# Altium schematic symbol library Memory EEPROM I2C.SchLib: 30 symbols
Pins are listed as number, name and electrical type; pins without a type are passive.

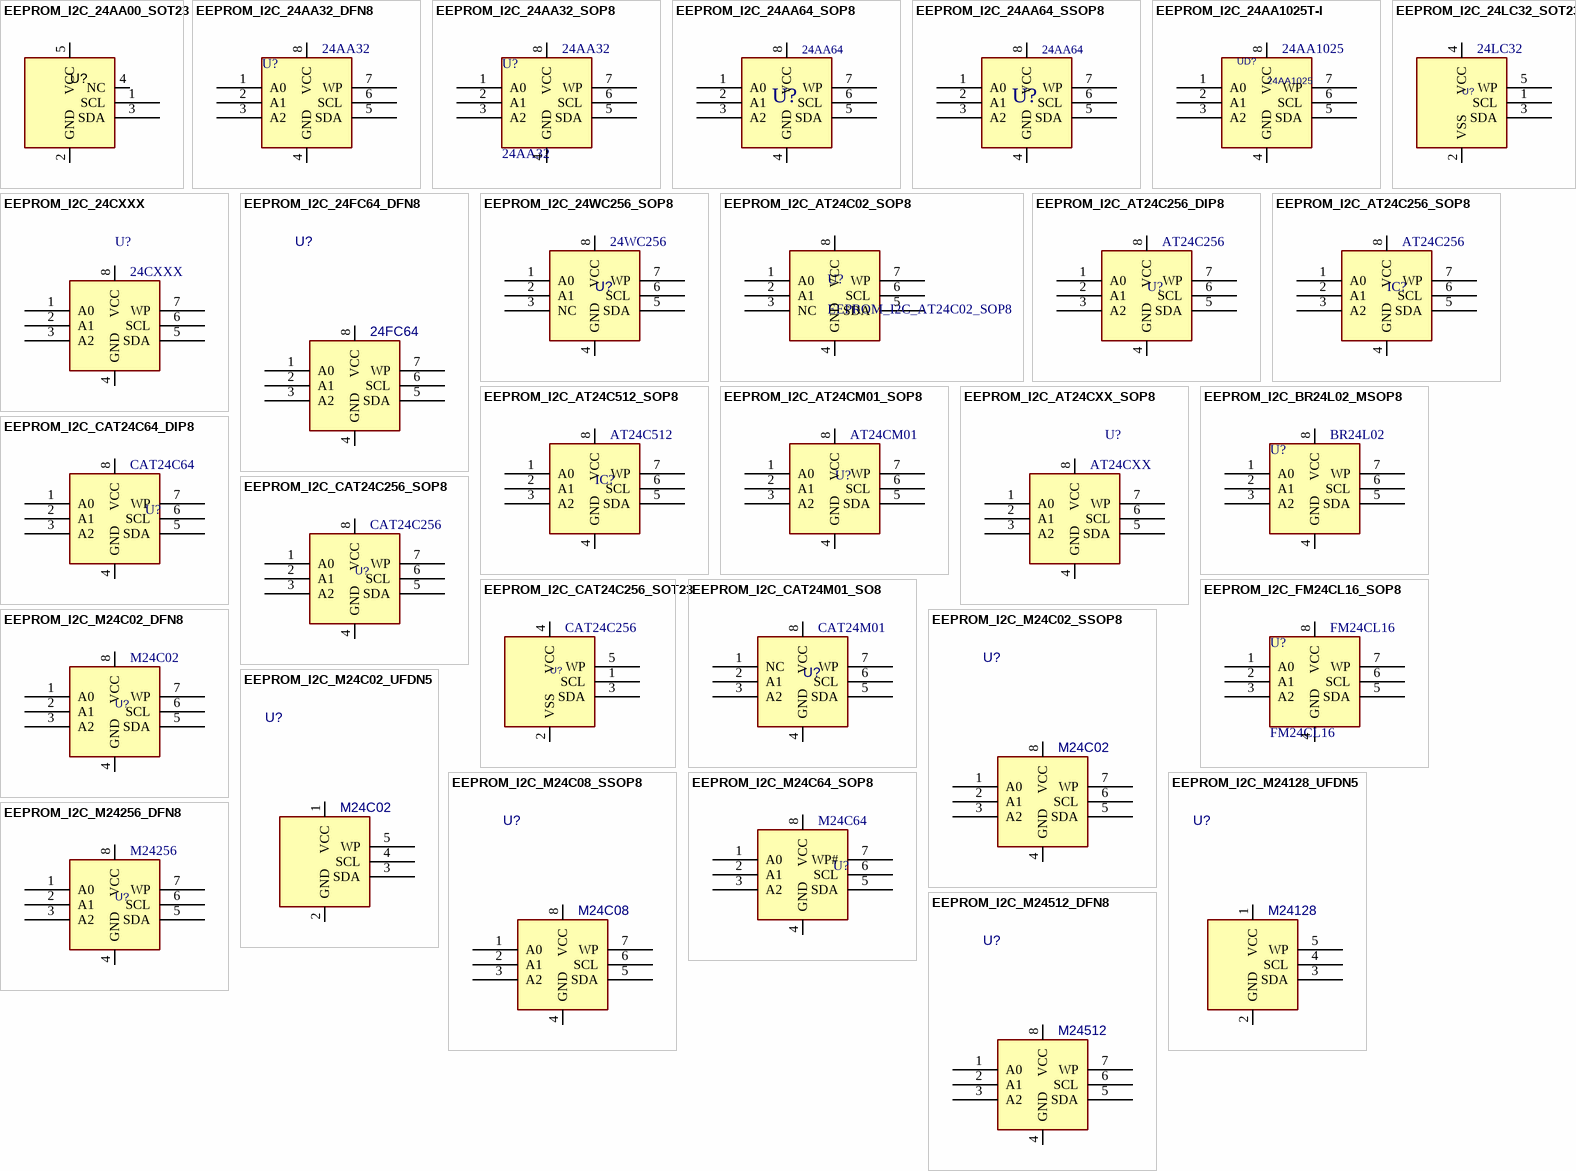
[diagram p0: symbols EEPROM_I2C_24AA00_SOT23 to EEPROM_I2C_M24512_DFN8]

## EEPROM_I2C_24AA00_SOT23
designator U?, comment 24AA00  (value not drawn)
EEPROM, I2C, 128bit, 400KHZ, SOT23-5; MANF: Microchip Technology; MANF_P#: 24AA00T-I/OT; PARAM2: 1.7~5.5V; PARAM: 128 (16 x 8); Value: 24AA00
footprint SOT23_5 (SOT-23-5, SOT25, SOT-25, DBV(R-PDSO-G5), TSOT23-5, SC-74A, SOT23-5, S5-T (LINEAR), MO-178AA, MO-193AB(JEDEC), MF05A (NS), TSOP-6(ON), UJ-5 (AD))
pins: 1 SCL, 2 GND, 3 SDA, 4 NC, 5 VCC

## EEPROM_I2C_24AA32_DFN8
designator U?, comment 24AA32
EEPROM, I2C, 32Kbit, 400kHz, 1.7V, DFN-8; MANF: Microchip; MANF_P#: 24AA32AAH1; VALUE: 24AA32
footprint SON50_8T_2X3 (TDFN, UFDFPN8, Pitch: 0.5mm 2x3x0.8mm with Thermal pad)
pins: 1 A0, 2 A1, 3 A2, 4 GND, 5 SDA, 6 SCL, 7 WP, 8 VCC

## EEPROM_I2C_24AA32_SOP8
designator U?, comment 24AA32
EEPROM, I2C, 32Kbit, 400kHz, 1.7V, SOP-8; MANF: Microchip; MANF_P#: 24AA32AFT-I/SN; VALUE: 24AA32
footprint SO_8
pins: 1 A0, 2 A1, 3 A2, 4 GND, 5 SDA, 6 SCL, 7 WP, 8 VCC

## EEPROM_I2C_24AA64_SOP8
designator U?, comment 24AA64
EEPROM, I2C, 64Kb (8K X8); MANF: Microchip; MANF_P#: 24AA64T-I/SN; PARAM2: 1.8~5.5V, 200Years; PARAM: 64Kb (8K X8), 400KHz, -40~85oC; PRICE: 0.47$; VALUE: 24AA64
footprint SO_8 (SOP-8, 5x3.9mm body 1.27mm pitch, SOT96-1, M08A, S8, SOIC8, VO8, MS-012AA(JEDEC), R-8, 8S2, VOG8)
pins: 1 A0, 2 A1, 3 A2, 4 GND, 5 SDA, 6 SCL, 7 WP, 8 VCC

## EEPROM_I2C_24AA64_SSOP8
designator U?, comment 24AA64
EEPROM, I2C, 64Kb (8K X8); MANF: Microchip; MANF_P#: 24AA64T-I/ST; PARAM2: 1.8~5.5V, 200Years; PARAM: 64Kb (8K X8), 400KHz, -40~85oC; PRICE: 0.5$; VALUE: 24AA64
footprint SOG65_8 (PW TSSOP (TI), MO-153 (JEDEC), 8Lead, pitch: 0.65mm, 3x4.4x1.2mm)
pins: 1 A0, 2 A1, 3 A2, 4 GND, 5 SDA, 6 SCL, 7 WP, 8 VCC

## EEPROM_I2C_24AA1025T-I
designator UD?, comment 24AA1025
EEPROM, I2C,; MANF: Microchip; MANF_P#: 24AA1025T-I/SM; VALUE: 24AA1025
footprint SO_8_W
pins: 1 A0, 2 A1, 3 A2, 4 GND, 5 SDA, 6 SCL, 7 WP, 8 VCC

## EEPROM_I2C_24CXXX
designator U?, comment 24CXXX
EEPROM, I2C; VALUE: 24CXXX
pins: 1 A0, 2 A1, 3 A2, 4 GND, 5 SDA, 6 SCL, 7 WP, 8 VCC

## EEPROM_I2C_24FC64_DFN8
designator U?, comment 24FC64
EEPROM, I2C, 8Kb, 400KHZ, DFN8; MANF_P#: 24FC64T-I/MNY; PARAM: 2.5V-5V; MANF: MICROCHIP; DESC: DESCRIPTION; ASSEMBLY: ASSEMBLY; PARAM2: 2.5V-5V; PRICE: 0.19; VALUE: 24FC64
footprint SON50_8T_2X3 (TDFN, UFDFPN8, Pitch: 0.5mm 2x3x0.8mm with Thermal pad)
pins: 1 A0, 2 A1, 3 A2, 4 GND, 5 SDA, 6 SCL, 7 WP, 8 VCC

## EEPROM_I2C_24LC32_SOT23
designator U?, comment 24LC32
EEPROM, I2C, 256Kb, SOT23-5; MANF: Microchip; MANF_P#: 24LC32AT-I/OT; PARAM2: 2.5~5.5Vcc, 400KHz; PARAM: 256Kb, 32KB, 200Years, 900ns, -40~85oC; PRICE: 0.4$; VALUE: 24LC32
footprint SOT23_5 (SOT-23-5, SOT25, SOT-25, DBV(R-PDSO-G5), TSOT23-5, SC-74A, SOT23-5, S5-T (LINEAR), MO-178AA, MO-193AB(JEDEC), MF05A (NS), TSOP-6(ON), UJ-5 (AD))
pins: 1 SCL, 2 VSS, 3 SDA, 4 VCC, 5 WP

## EEPROM_I2C_24WC256_SOP8
designator U?, comment 24WC256
EEPROM, I2C, 256Kb, CMOS; MANF: CATALYST; DESC: DESCRIPTION; MANF_P#: 24WC256; ASSEMBLY: ASSEMBLY; PARAM: PARAM; PRICE: PRICE; VALUE: 24WC256
footprint SO_8
pins: 1 A0, 2 A1, 3 NC, 4 GND, 5 SDA, 6 SCL, 7 WP, 8 VCC

## EEPROM_I2C_AT24C02_SOP8
designator U?
EEPROM, I2C; VALUE: AT24C02
footprint SO_8
pins: 1 A0, 2 A1, 3 NC, 4 GND, 5 SDA, 6 SCL, 7 WP, 8 VCC

## EEPROM_I2C_AT24C256_DIP8
designator U?, comment AT24C256
EEPROM, I2C; VALUE: AT24C256
footprint DIP_8 (DIP, pitch 2.54mm, 300mil Width)
pins: 1 A0, 2 A1, 3 A2, 4 GND, 5 SDA, 6 SCL, 7 WP, 8 VCC

## EEPROM_I2C_AT24C256_SOP8
designator IC?, comment AT24C256
EEPROM, I2C; Value: AT24C256
footprint SO_8
pins: 1 A0, 2 A1, 3 A2, 4 GND, 5 SDA, 6 SCL, 7 WP, 8 VCC

## EEPROM_I2C_AT24C512_SOP8
designator IC?, comment AT24C512
EEPROM, I2C; Value: AT24C512
footprint SO_8
pins: 1 A0, 2 A1, 3 A2, 4 GND, 5 SDA, 6 SCL, 7 WP, 8 VCC

## EEPROM_I2C_AT24CM01_SOP8
designator U?, comment AT24CM01
EEPROM, I2C, 1-Mbit (131,072 x 8); MANF_P#: AT24CM01-SSHM; Value: AT24CM01
footprint SO_8
pins: 1 A0, 2 A1, 3 A2, 4 GND, 5 SDA, 6 SCL, 7 WP, 8 VCC

## EEPROM_I2C_AT24CXX_SOP8
designator U?, comment AT24CXX
EEPROM, I2C,; Value: AT24CXX
footprint SO_8
pins: 1 A0, 2 A1, 3 A2, 4 GND, 5 SDA, 6 SCL, 7 WP, 8 VCC

## EEPROM_I2C_BR24L02_MSOP8
designator U?, comment BR24L02
EEPROM, I2C, 2KBIT, 400KHZ 8MSOP; PARAM2: 1.8~5.5V, I²C, 2-Wire Serial; MANF: Rohm Semiconductor; MANF_P#: BR24L02FVM-WTR; PARAM: 2K (256 x 8), 400kHz; PRICE: 1=0.78, 25=0.602, 100=0.531, 250=0.4602, 500=0.3894, 1000=0.30975 (USD); VALUE: BR24L02
footprint SOG65_8_3 (pitch: 0.65mm, 3.0mmX3.0mm, SSOP DCT SM8 (TI), TSSOP8, MICRO8, DGK, MSOP8, RM-8, MS8, MSOP-8, usop8/8uSOP)
pins: 1 A0, 2 A1, 3 A2, 4 GND, 5 SDA, 6 SCL, 7 WP, 8 VCC

## EEPROM_I2C_CAT24C64_DIP8
designator U?, comment CAT24C64
EEPROM, I2C, 64Kbit (8K X8); MANF: ON; MANF_P#: CAT24C64LI-G; PARAM2: 2.5~5V, 100Years; PARAM: 64Kbit (8K X8), 400KHz, -40~85oC; PRICE: 0.4$; VALUE: CAT24C64
footprint DIP_8 (DIP, pitch 2.54mm, 300mil Width)
pins: 1 A0, 2 A1, 3 A2, 4 GND, 5 SDA, 6 SCL, 7 WP, 8 VCC

## EEPROM_I2C_CAT24C256_SOP8
designator U?, comment CAT24C256
EEPROM, I2C, 256Kb,  SOP-8; MANF: ON; MANF_P#: CAT24C256W; VALUE: CAT24C256
footprint SO_8
pins: 1 A0, 2 A1, 3 A2, 4 GND, 5 SDA, 6 SCL, 7 WP, 8 VCC

## EEPROM_I2C_CAT24C256_SOT23
designator U?, comment CAT24C256
EEPROM, I2C, 256Kb, SOT23-5; MANF: On Semiconductor; MANF_P#: CAT24C256WI-G; PARAM: 256Kb, 32KByte; VALUE: CAT24C256
footprint SOT23_5 (SOT-23-5, SOT25, SOT-25, DBV(R-PDSO-G5), TSOT23-5, SC-74A, SOT23-5, S5-T (LINEAR), MO-178AA, MO-193AB(JEDEC), MF05A (NS), TSOP-6(ON), UJ-5 (AD))
pins: 1 SCL, 2 VSS, 3 SDA, 4 VCC, 5 WP

## EEPROM_I2C_CAT24M01_SO8
designator U?, comment CAT24M01
EEPROM, I2C, 1M-Bit, CMOS; MANF_P#: CAT24M01WI-GT3; MANF: ON; DESC: DESCRIPTION; ASSEMBLY: ASSEMBLY; PARAM: PARAM; PRICE: PRICE; VALUE: CAT24M01
footprint SO_8
pins: 1 NC, 2 A1, 3 A2, 4 GND, 5 SDA, 6 SCL, 7 WP, 8 VCC

## EEPROM_I2C_FM24CL16_SOP8
designator U?, comment FM24CL16
EEPROM, I2C, 16Kbit, SOP-8; MANF: -; MANF_P#: FM24CL16; VALUE: FM24CL16
footprint SO_8
pins: 1 A0, 2 A1, 3 A2, 4 GND, 5 SDA, 6 SCL, 7 WP, 8 VCC

## EEPROM_I2C_M24C02_DFN8
designator U?, comment M24C02
EEPROM, I2C, 2Kb, 1MHz, DFN-8; MANF: ST; MANF_P#: M24C02-DRMF3TG/K; PARAM2: 1.8~5.5v,; PARAM: 256 x8, 1MHz, 100Years, -40~125oC; PRICE: 0.3$; VALUE: M24C02
footprint SON50_8T_2X3 (TDFN, UFDFPN8, Pitch: 0.5mm 2x3x0.8mm with Thermal pad)
pins: 1 A0, 2 A1, 3 A2, 4 GND, 5 SDA, 6 SCL, 7 WP, 8 VCC

## EEPROM_I2C_M24C02_SSOP8
designator U?, comment M24C02
EEPROM, I2C, 2KBIT, 400KHZ, 8TSSOP; MANF_P#: M24C02-WDW6TP; PARAM: 256X8; MANF: STMicroelectronics; DESC: DESCRIPTION; PARAM2: 2.5V-5V; ASSEMBLY: ASSEMBLY; PRICE: 0.19; VALUE: M24C02
footprint SOG65_8 (PW TSSOP (TI), MO-153 (JEDEC), 8Lead, pitch: 0.65mm, 3x4.4x1.2mm)
pins: 1 A0, 2 A1, 3 A2, 4 GND, 5 SDA, 6 SCL, 7 WP, 8 VCC

## EEPROM_I2C_M24C02_UFDN5
designator U?, comment M24C02
EEPROM, I2C, 2KBIT, 400KHZ, UFDFPN-5; MANF_P#: M24C02-FMH6TG; PARAM: 256X8, -40~85oC; MANF: STMicroelectronics; DESC: DESCRIPTION; PARAM2: 1.7V-5.5V; ASSEMBLY: ASSEMBLY; PRICE: 0.17$; VALUE: M24C02
footprint SON40_5_170X140 (UFDFPN5, pitch:0.4mm 1.7x1.4x0.5mm)
pins: 1 VCC, 2 GND, 3 SDA, 4 SCL, 5 WP

## EEPROM_I2C_M24C08_SSOP8
designator U?, comment M24C08
EEPROM, I2C, 8KBIT, 400KHZ, 8TSSOP; MANF_P#: M24C08-WDW6TP; PARAM: 2.5V-5V; MANF: STMicroelectronics; DESC: DESCRIPTION; ASSEMBLY: ASSEMBLY; PARAM2: 2.5V-5V; PRICE: 0.19; VALUE: M24C08
footprint SOG65_8 (PW TSSOP (TI), MO-153 (JEDEC), 8Lead, pitch: 0.65mm, 3x4.4x1.2mm)
pins: 1 A0, 2 A1, 3 A2, 4 GND, 5 SDA, 6 SCL, 7 WP, 8 VCC

## EEPROM_I2C_M24C64_SOP8
designator U?, comment M24C64
EEPROM, I2C, 64Kbit (8K X8); MANF: ST-Microelectronics; MANF_P#: M24C64-DRMN8, M24C64-WMN6, M24C64-FMN6; PARAM2: 1.8~5.5V, 200Years; PARAM: 64Kbit (8K X8), 1MHz, -40~85oC; PRICE: 0.4$; VALUE: M24C64
footprint SO_8 (SOP-8, 5x3.9mm body 1.27mm pitch, SOT96-1, M08A, S8, SOIC8, VO8, MS-012AA(JEDEC), R-8, 8S2, VOG8)
pins: 1 A0, 2 A1, 3 A2, 4 GND, 5 SDA, 6 SCL, 7 WP#, 8 VCC

## EEPROM_I2C_M24128_UFDN5
designator U?, comment M24128
EEPROM, I2C, 128Kb, 1MHZ, UFDFPN-5; MANF_P#: M24128-BFMH6TG; PARAM: 256X8, 1MHz, 200Years, -40~85oC; MANF: STMicroelectronics; DESC: DESCRIPTION; PARAM2: 1.7V-5.5V; ASSEMBLY: ASSEMBLY; PRICE: 0.45$; VALUE: M24128
footprint SON40_5_170X140 (UFDFPN5, pitch:0.4mm 1.7x1.4x0.5mm)
pins: 1 VCC, 2 GND, 3 SDA, 4 SCL, 5 WP

## EEPROM_I2C_M24256_DFN8
designator U?, comment M24256
EEPROM, I2C, 256Kb,  DFN-8; MANF: ST; MANF_P#: M24256-DFMC6TG; PARAM2: 1.7~5.5v; PARAM: 32k x8, 1MHz, 200Years, -40~85oC; PRICE: 0.47$; VALUE: M24256
footprint SON50_8T_2X3 (TDFN, UFDFPN8, Pitch: 0.5mm 2x3x0.8mm with Thermal pad)
pins: 1 A0, 2 A1, 3 A2, 4 GND, 5 SDA, 6 SCL, 7 WP, 8 VCC

## EEPROM_I2C_M24512_DFN8
designator U?, comment M24512
EEPROM, I2C, 512Kb, 1MHz, 100Years, DFN-8; MANF_P#: M24512-DRMF3TG/K; PARAM: 512Kb, 64K X8, 1MHz, -40~125oC; MANF: STMicroelectronics; DESC: 24LC512-I/MF; PARAM2: 1.8~5.5V; ASSEMBLY: ASSEMBLY; PRICE: 1.24$; VALUE: M24512
footprint SON50_8T_2X3 (TDFN, UFDFPN8, Pitch: 0.5mm 2x3x0.8mm with Thermal pad)
pins: 1 A0, 2 A1, 3 A2, 4 GND, 5 SDA, 6 SCL, 7 WP, 8 VCC